# EAGLE library part ROTARY_71 (library EAG)
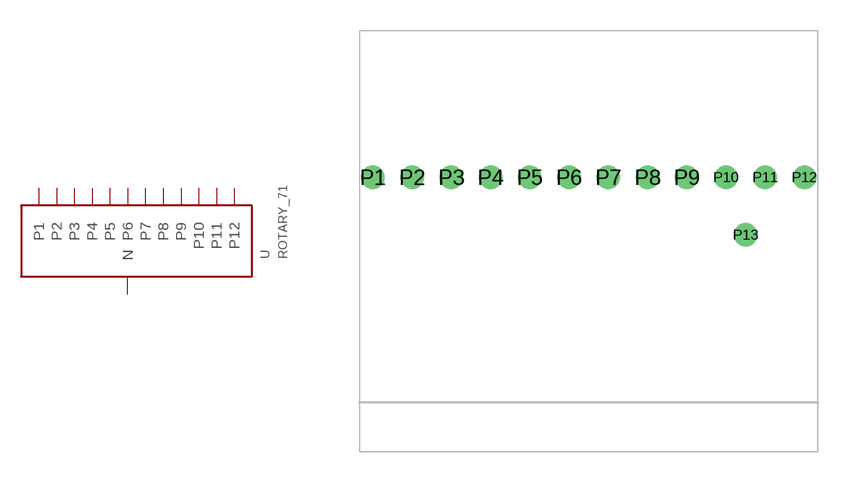
[diagram p3: symbol with the pads of 71_SWITCH_30DEG; footprint 71_SWITCH_30DEG]

Designator prefix -

## ROTARY_71  [71_SWITCH_30DEG]
P1  P1
P2  P2
P3  P3
P4  P4
P5  P5
P6  P6
P7  P7
P8  P8
P9  P9
P10  P10
P11  P11
P12  P12
P13  N

## Footprint 71_SWITCH_30DEG (pad centres in mm)
drill 0.635: P1 -18.098,0; P2 -16.192,0; P3 -14.287,0; P4 -12.383,0; P5 -10.477,0; P6 -8.572,0; P7 -6.668,0; P8 -4.763,0; P9 -2.857,0; P10 -0.953,0; P11 0.953,0; P12 2.857,0; P13 0,-2.794